# Altium footprint library WE-PMCI.PcbLib: 9 footprints
Each footprint in its own frame and in the unit in brackets; x right, y up, seen from the top. Pads: shape width x height; smd on the part's side, far side on the other; paste and mask are expansions set on the pad; w line width, h text height; cw(c..) or ccw(c..) is an arc to the next point about the centre after c.
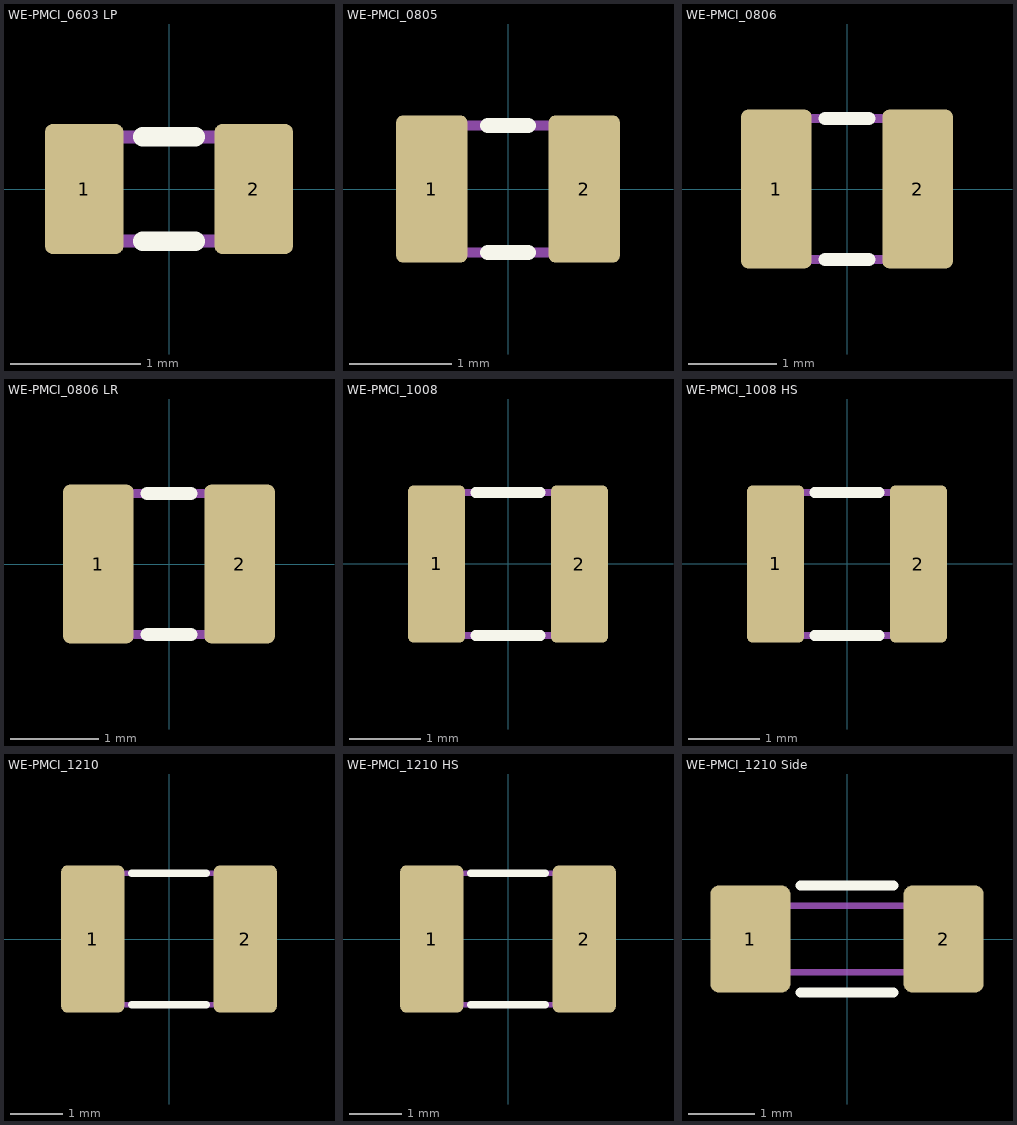
[diagram p0: the footprints below, top view; thin cyan lines are the x and y axes]

## WE-PMCI_0603 LP [mm] "WE-PMCI WE-PMCI Power Molded Chip Inductor, 0603 LP"
height 0.8
pads (2):
  rrect20% 0.6x1 smd: 1(-0.65,0) 2(0.65,0)
Top Overlay:
  lines w0.15: -0.2,-0.4 0.2,-0.4 ; -0.2,0.4 0.2,0.4
Mechanical 13:
  lines w0.1: -0.8,-0.4 0.8,-0.4 0.8,0.4 -0.8,0.4 -0.8,-0.4
3D body "74479262xxx_0603.stp": height 0.81, standoff 0.01, extent -0.8,-0.4 0.8,0.4

## WE-PMCI_0805 [mm] "WE-PMCI WE-PMCI Power Molded Chip Inductor, 0805"
height 1
pads (2):
  rrect20% 0.7x1.45 smd: 1(-0.75,0) 2(0.75,0)
Top Overlay:
  lines w0.15: -0.2,-0.625 0.2,-0.625 ; -0.2,0.625 0.2,0.625
Mechanical 13:
  lines w0.1: -1,-0.625 1,-0.625 1,0.625 -1,0.625 -1,-0.625
3D body "74479275xxx_0805.stp": height 1.01, standoff 0.01, extent -1,-0.625 1,0.625

## WE-PMCI_0806 [mm] "WE-PMCI WE-PMCI Power Molded Chip Inductor, 0806"
height 1
pads (2):
  rrect20% 0.8x1.8 smd: 1(-0.8,0) 2(0.8,0)
Top Overlay:
  lines w0.15: -0.25,-0.8 0.25,-0.8 ; -0.25,0.8 0.25,0.8
Mechanical 13:
  lines w0.1: -1,-0.8 1,-0.8 1,0.8 -1,0.8 -1,-0.8
3D body "74479276xxx_0806.stp": height 1.02, standoff 0.02, extent -1,-0.799 1,0.801

## WE-PMCI_0806 LR [mm] "WE-PMCI WE-PMCI Power Molded Chip Inductor, 0806LR"
height 1
pads (2):
  rrect20% 0.8x1.8 smd: 1(-0.8,0) 2(0.8,0)
Top Overlay:
  lines w0.15: -0.25,-0.8 0.25,-0.8 ; -0.25,0.8 0.25,0.8
Mechanical 13:
  lines w0.1: -1,-0.8 -1,0.8 1,0.8 1,-0.8 -1,-0.8
3D body "74479276xxxC_0806.stp": height 1.02, standoff 0.02, extent -1,-0.8 1,0.8

## WE-PMCI_1008 [mm] "WE-PMCI WE-PMCI Power Molded Chip Inductor, 1008"
height 1
pads (2):
  rrect20% 0.8x2.2 smd: 1(-1,0) 2(1,0)
Top Overlay:
  lines w0.15: -0.45,-1 0.45,-1 ; -0.45,1 0.45,1
Mechanical 13:
  lines w0.1: -1.25,-1 1.25,-1 1.25,1 -1.25,1 -1.25,-1
3D body "74479287xxx_1008.stp": height 1.02, standoff 0.02, extent -1.25,-1 1.25,1

## WE-PMCI_1008 HS [mm] "WE-PMCI WE-PMCI Power Molded Chip Inductor, 1008HS"
height 1
pads (2):
  rrect20% 0.8x2.2 smd: 1(-1,0) 2(1,0)
Top Overlay:
  lines w0.15: -0.45,-1 0.45,-1 ; -0.45,1 0.45,1
Mechanical 13:
  lines w0.1: -1.25,-1 1.25,-1 1.25,1 -1.25,1 -1.25,-1
3D body "74479288xxx_1008.stp": height 1.22, standoff 0.02, extent -1.25,-1 1.25,1

## WE-PMCI_1210 [mm] "WE-PMCI WE-PMCI Power Molded Chip Inductor, 1210"
height 1
pads (2):
  rrect20% 1.2x2.8 smd: 1(-1.45,0) 2(1.45,0)
Top Overlay:
  lines w0.15: -0.7,-1.25 0.7,-1.25 ; -0.7,1.25 0.7,1.25
Mechanical 13:
  lines w0.1: -1.6,-1.25 1.6,-1.25 1.6,1.25 -1.6,1.25 -1.6,-1.25
3D body "74479298xxx_1210.stp": height 1.02, standoff 0.02, extent -1.6,-1.25 1.6,1.25

## WE-PMCI_1210 HS [mm] "WE-PMCI WE-PMCI Power Molded Chip Inductor, 1210HS"
height 1.2
pads (2):
  rrect20% 1.2x2.8 smd: 1(-1.45,0) 2(1.45,0)
Top Overlay:
  lines w0.15: -0.7,-1.25 0.7,-1.25 ; -0.7,1.25 0.7,1.25
Mechanical 13:
  lines w0.1: -1.6,-1.25 -1.6,1.25 1.6,1.25 1.6,-1.25 -1.6,-1.25
3D body "74479299xxx_1210.stp": height 1.22, standoff 0.02, extent -1.6,-1.25 1.6,1.25

## WE-PMCI_1210 Side [mm] "WE-PMCI WE-PMCI Power Molded Chip Inductor, 1210 mounted on edge (manual soldering)"
height 2.5
pads (2):
  rrect20% 1.2x1.6 smd: 1(-1.45,0) 2(1.45,0)
Top Overlay:
  lines w0.15: -0.7,-0.8 0.7,-0.8 ; -0.7,0.8 0.7,0.8
Mechanical 13:
  lines w0.1: -1.6,-0.5 -1.6,0.5 1.6,0.5 1.6,-0.5 -1.6,-0.5
3D body "74479298xxx_1210.stp": height 2.52, standoff 0.02, extent -1.6,-0.5 1.6,0.5